# EAGLE library part EHTERNE_ENC20J60_NANO_BREAKOUT (library mestrado)
Generic Nano Footprint
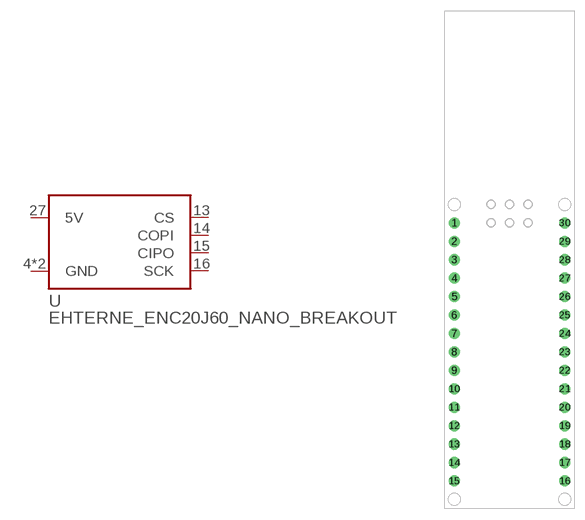
[diagram p16: symbol with the pads of EHTERNE_ENC20J60_NANO_BREAKOUT; footprint EHTERNE_ENC20J60_NANO_BREAKOUT]

Designator prefix U

## EHTERNE_ENC20J60_NANO_BREAKOUT  [EHTERNE_ENC20J60_NANO_BREAKOUT]
4  GND
13  CS
14  COPI
15  CIPO
16  SCK
27  5V
29  GND

## Footprint EHTERNE_ENC20J60_NANO_BREAKOUT (pad centres in mm)
Arduino Nano Footprint
drill 1.016: 1 -7.62,17.78; 2 -7.62,15.24; 3 -7.62,12.7; 4 -7.62,10.16; 5 -7.62,7.62; 6 -7.62,5.08; 7 -7.62,2.54; 8 -7.62,0; 9 -7.62,-2.54; 10 -7.62,-5.08; 11 -7.62,-7.62; 12 -7.62,-10.16; 13 -7.62,-12.7; 14 -7.62,-15.24; 15 -7.62,-17.78; 16 7.62,-17.78; 17 7.62,-15.24; 18 7.62,-12.7; 19 7.62,-10.16; 20 7.62,-7.62; 21 7.62,-5.08; 22 7.62,-2.54; 23 7.62,0; 24 7.62,2.54; 25 7.62,5.08; 26 7.62,7.62; 27 7.62,10.16; 28 7.62,12.7; 29 7.62,15.24; 30 7.62,17.78